# Altium footprint library thermostat.PcbLib: 112 footprints (part 5 of 7)
Each footprint in its own frame and in the unit in brackets; x right, y up, seen from the top. Pads: shape width x height; smd on the part's side, far side on the other; paste and mask are expansions set on the pad; w line width, h text height; cw(c..) or ccw(c..) is an arc to the next point about the centre after c.
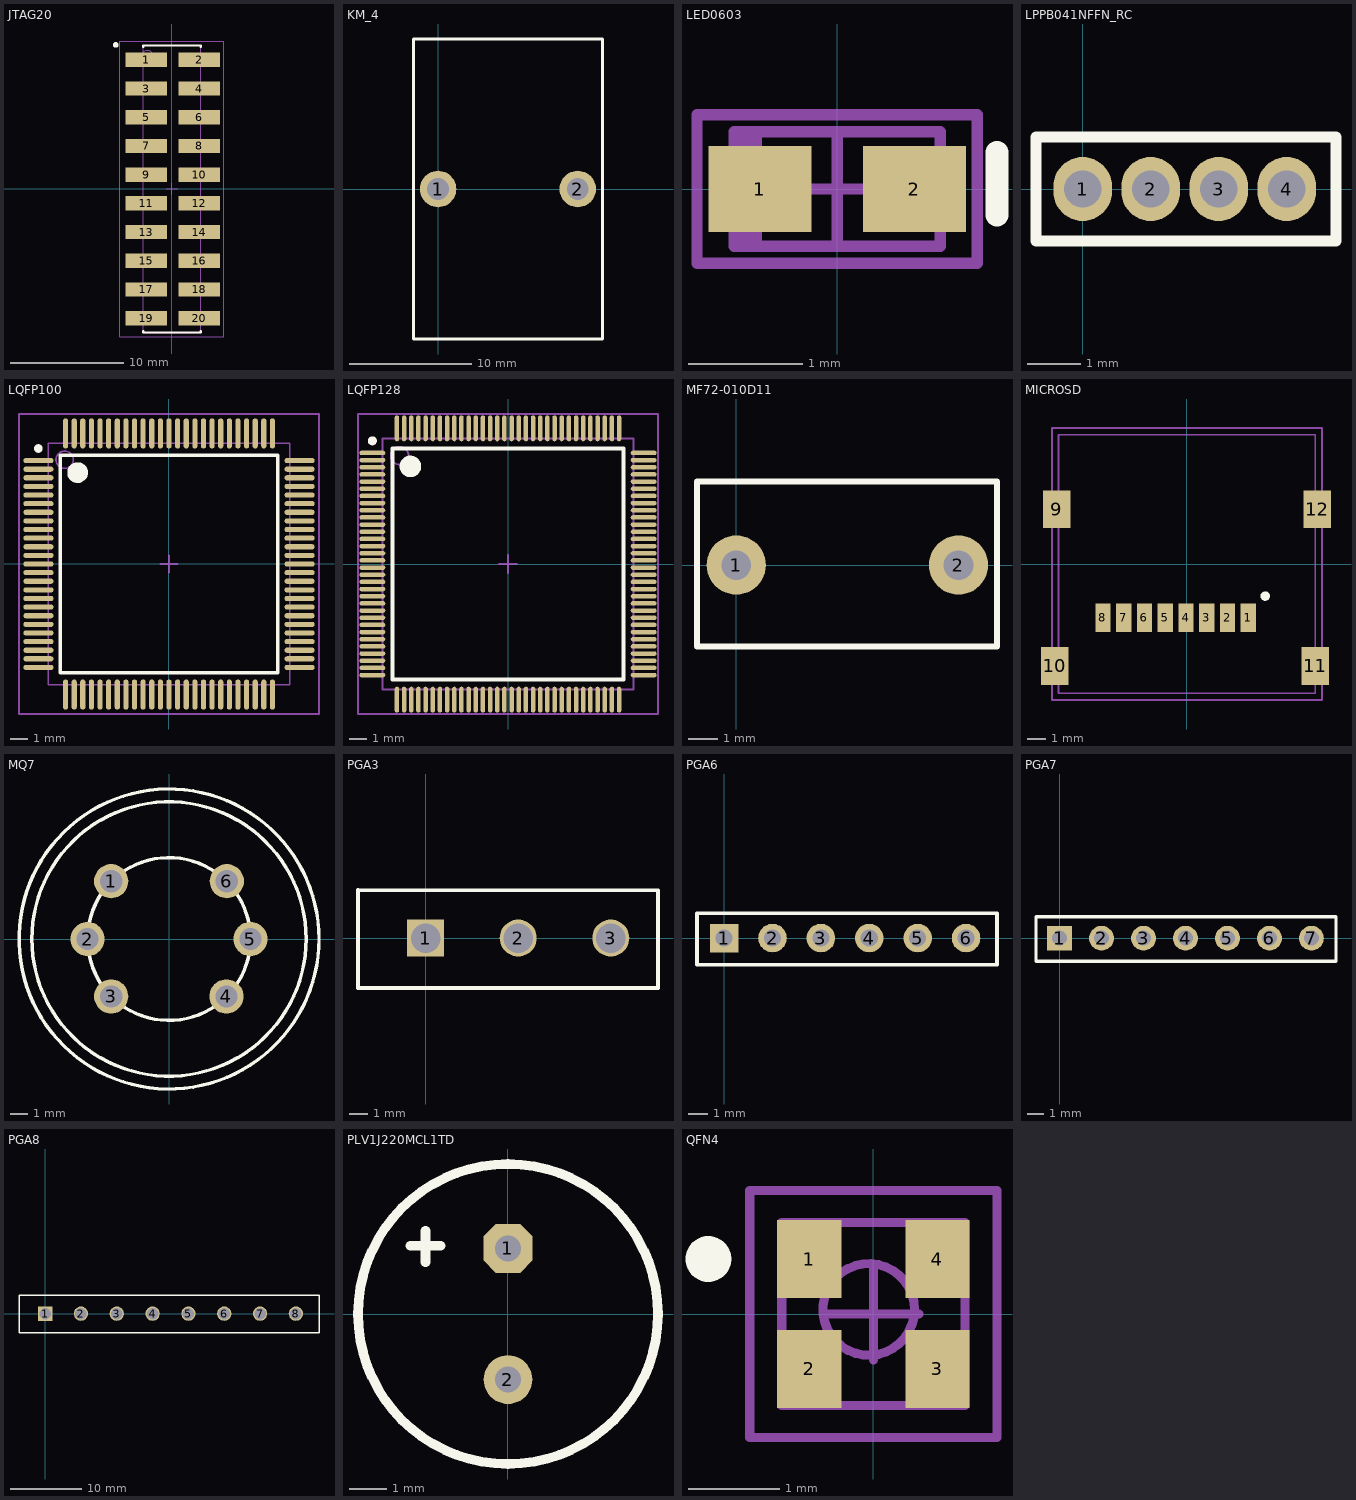
[diagram p4: the footprints below, top view; thin cyan lines are the x and y axes]

## JTAG20 [mm] "JTAG, 20-Leads, Body 25,4x5,1mm (max), Pitch 2,54mm, IPC High Density"
height 10
pads (20):
  rect 3.68x1.27 smd: 1(-2.275,11.43) 2(2.4,11.43) 3(-2.275,8.89) 4(2.4,8.89) 5(-2.275,6.35) 6(2.4,6.35) 7(-2.275,3.81) 8(2.4,3.81) 9(-2.275,1.27) 10(2.4,1.27) 11(-2.275,-1.27) 12(2.4,-1.27) 13(-2.275,-3.81) 14(2.4,-3.81) 15(-2.275,-6.35) 16(2.4,-6.35) 17(-2.275,-8.89) 18(2.4,-8.89) 19(-2.275,-11.43) 20(2.4,-11.43)
Top Overlay:
  circle w0.25: c-4.975,12.75 r0.125
  lines w0.2: -2.55,-12.575 -2.55,-12.7 0.425,-12.7 ; -2.55,12.575 -2.55,12.7 0.425,12.7 ; -0.425,-12.7 2.55,-12.7 2.55,-12.575 ; -0.425,12.7 2.55,12.7 2.55,12.575
Mechanical 13:
  circle w0.1: c-2.19,11.75 r0.5
  lines w0.1: -2.54,-12.7 -2.54,12.7 2.54,12.7 2.54,-12.7 -2.54,-12.7
Mechanical 15:
  lines w0.1: -0.5,0 0.5,0 ; 0,-0.5 0,0.5 ; -4.6,-13.05 -4.6,13.05 4.575,13.05 4.575,-13.05 -4.6,-13.05
3D body: height 7, standoff 0.1, extent -2.54,-12.7 2.54,12.7

## KM_4 [mm] "INDUCTOR PWR TOROID 100UH T/H"
height 28
pads (2):
  round 3 hole 1.8: 1(0,0) 2(11.47,0)
Top Overlay:
  lines w0.254: -2.01,-12.32 13.49,-12.32 13.49,0 13.49,12.32 -2.01,12.32 -2.01,0 -2.01,-12.32
3D body: height 28, standoff 0, extent -2,-12.31 13.46,12.28

## LED0603 [mm] "Molded Diode, 2-Leads, Body 1,7x0,9mm, IPC High Density"
height 0.85
pads (2):
  rect 0.9x0.75 smd: 1(-0.675,0) 2(0.675,0)
Top Overlay:
  lines w0.2: 1.397,-0.229 1.397,0.321
Mechanical 13:
  rectangle: -0.9,-0.5 -0.658,0.5
  lines w0.1: -0.9,-0.5 -0.9,0.5 0.9,0.5 0.9,-0.5 -0.9,-0.5
Mechanical 15:
  lines w0.1: -0.5,0 0.5,0 ; 0,-0.5 0,0.5 ; -1.225,-0.65 -1.225,0.65 1.225,0.65 1.225,-0.65 -1.225,-0.65
3D body: height 0.85, standoff 0, extent -0.9,-0.5 0.9,0.5

## LPPB041NFFN_RC [mm] "CONN HEADER .050\" 4POS PCB GOLD"
height 4.5
pads (4):
  oval 1.1x1.2 hole 0.7: 1(0,0) 2(1.275,0) 3(2.55,0) 4(3.825,0)
Top Overlay:
  lines w0.2: -0.875,-0.975 -0.875,0.975 4.75,0.975 4.75,-0.975 -0.875,-0.975
3D body: height 4.5, standoff 0, extent -0.775,-0.875 4.65,0.875

## LQFP100 [mm] "LQFP100, 100-Leads, Body 16,2x16,2mm (max), Pitch 0,50mm, IPC Medium Density"
height 1.6
pads (100):
  oval 1.75x0.3 smd: 1(-7.575,6) 2(-7.575,5.5) 3(-7.575,5) 4(-7.575,4.5) 5(-7.575,4) 6(-7.575,3.5) 7(-7.575,3) 8(-7.575,2.5) 9(-7.575,2) 10(-7.575,1.5) 11(-7.575,1) 12(-7.575,0.5) 13(-7.575,0) 14(-7.575,-0.5) 15(-7.575,-1) 16(-7.575,-1.5) 17(-7.575,-2) 18(-7.575,-2.5) 19(-7.575,-3) 20(-7.575,-3.5) 21(-7.575,-4) 22(-7.575,-4.5) 23(-7.575,-5) 24(-7.575,-5.5) 25(-7.575,-6) 51(7.575,-6) 52(7.575,-5.5) 53(7.575,-5) 54(7.575,-4.5) 55(7.575,-4) 56(7.575,-3.5) 57(7.575,-3) 58(7.575,-2.5) 59(7.575,-2) 60(7.575,-1.5) 61(7.575,-1) 62(7.575,-0.5) 63(7.575,0) 64(7.575,0.5) 65(7.575,1) 66(7.575,1.5) 67(7.575,2) 68(7.575,2.5) 69(7.575,3) 70(7.575,3.5) 71(7.575,4) 72(7.575,4.5) 73(7.575,5) 74(7.575,5.5) 75(7.575,6)
  oval 0.3x1.75 smd: 26(-6,-7.575) 27(-5.5,-7.575) 28(-5,-7.575) 29(-4.5,-7.575) 30(-4,-7.575) 31(-3.5,-7.575) 32(-3,-7.575) 33(-2.5,-7.575) 34(-2,-7.575) 35(-1.5,-7.575) 36(-1,-7.575) 37(-0.5,-7.575) 38(0,-7.575) 39(0.5,-7.575) 40(1,-7.575) 41(1.5,-7.575) 42(2,-7.575) 43(2.5,-7.575) 44(3,-7.575) 45(3.5,-7.575) 46(4,-7.575) 47(4.5,-7.575) 48(5,-7.575) 49(5.5,-7.575) 50(6,-7.575) 76(6,7.575) 77(5.5,7.575) 78(5,7.575) 79(4.5,7.575) 80(4,7.575) 81(3.5,7.575) 82(3,7.575) 83(2.5,7.575) 84(2,7.575) 85(1.5,7.575) 86(1,7.575) 87(0.5,7.575) 88(0,7.575) 89(-0.5,7.575) 90(-1,7.575) 91(-1.5,7.575) 92(-2,7.575) 93(-2.5,7.575) 94(-3,7.575) 95(-3.5,7.575) 96(-4,7.575) 97(-4.5,7.575) 98(-5,7.575) 99(-5.5,7.575) 100(-6,7.575)
Top Overlay:
  circle w0.25: c-7.575,6.7 r0.125
  circle w0.6: c-5.3,5.3 r0.3
  lines w0.2: -6.3,-6.3 -6.3,6.3 6.3,6.3 6.3,-6.3 -6.3,-6.3
Mechanical 13:
  circle w0.1: c-6.05,6.05 r0.5
  lines w0.1: -7,-7 -7,7 7,7 7,-7 -7,-7
Mechanical 15:
  lines w0.1: -0.5,0 0.5,0 ; 0,-0.5 0,0.5 ; -8.7,-8.7 -8.7,8.7 8.7,8.7 8.7,-8.7 -8.7,-8.7
3D body: height 1.6, standoff 0.25, extent -7,-7 7,7

## LQFP128 [mm] "LQFP 128-Leads, Body 16,0x16,0mm (max), Pitch 0,40mm, IPC High Density"
height 1.6
pads (128):
  oval 1.45x0.25 smd: 1(-7.575,6.2) 2(-7.575,5.8) 3(-7.575,5.4) 4(-7.575,5) 5(-7.575,4.6) 6(-7.575,4.2) 7(-7.575,3.8) 8(-7.575,3.4) 9(-7.575,3) 10(-7.575,2.6) 11(-7.575,2.2) 12(-7.575,1.8) 13(-7.575,1.4) 14(-7.575,1) 15(-7.575,0.6) 16(-7.575,0.2) 17(-7.575,-0.2) 18(-7.575,-0.6) 19(-7.575,-1) 20(-7.575,-1.4) 21(-7.575,-1.8) 22(-7.575,-2.2) 23(-7.575,-2.6) 24(-7.575,-3) 25(-7.575,-3.4) 26(-7.575,-3.8) 27(-7.575,-4.2) 28(-7.575,-4.6) 29(-7.575,-5) 30(-7.575,-5.4) 31(-7.575,-5.8) 32(-7.575,-6.2) 65(7.575,-6.2) 66(7.575,-5.8) 67(7.575,-5.4) 68(7.575,-5) 69(7.575,-4.6) 70(7.575,-4.2) 71(7.575,-3.8) 72(7.575,-3.4) 73(7.575,-3) 74(7.575,-2.6) 75(7.575,-2.2) 76(7.575,-1.8) 77(7.575,-1.4) 78(7.575,-1) 79(7.575,-0.6) 80(7.575,-0.2) 81(7.575,0.2) 82(7.575,0.6) 83(7.575,1) 84(7.575,1.4) 85(7.575,1.8) 86(7.575,2.2) 87(7.575,2.6) 88(7.575,3) 89(7.575,3.4) 90(7.575,3.8) 91(7.575,4.2) 92(7.575,4.6) 93(7.575,5) 94(7.575,5.4) 95(7.575,5.8) 96(7.575,6.2)
  oval 0.25x1.45 smd: 33(-6.2,-7.575) 34(-5.8,-7.575) 35(-5.4,-7.575) 36(-5,-7.575) 37(-4.6,-7.575) 38(-4.2,-7.575) 39(-3.8,-7.575) 40(-3.4,-7.575) 41(-3,-7.575) 42(-2.6,-7.575) 43(-2.2,-7.575) 44(-1.8,-7.575) 45(-1.4,-7.575) 46(-1,-7.575) 47(-0.6,-7.575) 48(-0.2,-7.575) 49(0.2,-7.575) 50(0.6,-7.575) 51(1,-7.575) 52(1.4,-7.575) 53(1.8,-7.575) 54(2.2,-7.575) 55(2.6,-7.575) 56(3,-7.575) 57(3.4,-7.575) 58(3.8,-7.575) 59(4.2,-7.575) 60(4.6,-7.575) 61(5,-7.575) 62(5.4,-7.575) 63(5.8,-7.575) 64(6.2,-7.575) 97(6.2,7.575) 98(5.8,7.575) 99(5.4,7.575) 100(5,7.575) 101(4.6,7.575) 102(4.2,7.575) 103(3.8,7.575) 104(3.4,7.575) 105(3,7.575) 106(2.6,7.575) 107(2.2,7.575) 108(1.8,7.575) 109(1.4,7.575) 110(1,7.575) 111(0.6,7.575) 112(0.2,7.575) 113(-0.2,7.575) 114(-0.6,7.575) 115(-1,7.575) 116(-1.4,7.575) 117(-1.8,7.575) 118(-2.2,7.575) 119(-2.6,7.575) 120(-3,7.575) 121(-3.4,7.575) 122(-3.8,7.575) 123(-4.2,7.575) 124(-4.6,7.575) 125(-5,7.575) 126(-5.4,7.575) 127(-5.8,7.575) 128(-6.2,7.575)
Top Overlay:
  circle w0.25: c-7.575,6.875 r0.125
  circle w0.6: c-5.45,5.45 r0.3
  lines w0.2: -6.45,-6.45 -6.45,6.45 6.45,6.45 6.45,-6.45 -6.45,-6.45
Mechanical 13:
  circle w0.1: c-6.05,6.05 r0.5
  lines w0.1: -7,-7 -7,7 7,7 7,-7 -7,-7
Mechanical 15:
  lines w0.1: -0.5,0 0.5,0 ; 0,-0.5 0,0.5 ; -8.375,-8.375 -8.375,8.375 8.375,8.375 8.375,-8.375 -8.375,-8.375
3D body: height 1.6, standoff 0.05, extent -7,-7 7,7

## MF72-010D11 [mm]
pads (2):
  round 2 hole 1: 1(0,0) 2(7.5,0)
Top Overlay:
  lines w0.2: -1.325,-2.75 -1.325,2.825 8.8,2.825 8.8,-2.75 -1.325,-2.75
3D body: height 14, standoff 0, extent -1.2,-2.625 8.675,2.7

## MICROSD [mm] "MicroSD"
height 1.7
pads (12):
  rect 0.8x1.5 smd: 1(3.25,-2.85) 2(2.15,-2.85) 3(1.05,-2.85) 4(-0.05,-2.85) 5(-1.15,-2.85) 6(-2.25,-2.85) 7(-3.35,-2.85) 8(-4.45,-2.85)
  rect 1.45x2 smd: 9(-6.9,2.9) 10(-7,-5.4) 11(6.8,-5.4) 12(6.9,2.9)
Top Overlay:
  circle w0.25: c4.15,-1.7 r0.125
Mechanical 13:
  lines w0.1: -6.8,-6.85 6.8,-6.85 6.8,6.85 -6.8,6.85 -6.8,-6.85
Mechanical 15:
  lines w0.1: -7.15,-7.2 7.15,-7.2 7.15,7.2 -7.15,7.2 -7.15,-7.2
3D body: height 1.7, standoff 0.1, extent -6.8,-6.85 6.8,6.85

## MQ7 [mm]
height 14
pads (6):
  round 2 hole 1.3: 1(-3.375,3.375) 2(-4.75,0) 3(-3.375,-3.35) 4(3.35,-3.35) 5(4.75,0) 6(3.375,3.375)
Top Overlay:
  circle w0.2: c0,0 r4.75
  circle w0.2: c0,0 r8
  circle w0.2: c0,0 r8.75

## PCBComponent_1 [mm]

## PGA3 [mm]
pads (3):
  rect 2x2 hole 1.6: 1(0,0)
  round 2 hole 1.6: 2(5,0) 3(10,0)
Top Overlay:
  lines w0.2: -3.65,-2.7 12.55,-2.7 12.55,2.575 -3.625,2.575 -3.65,2.6 -3.65,-2.7
3D body: height 7, standoff 0.1, extent -3.2,-2.45 11.85,2.425

## PGA6 [mm]
pads (6):
  rect 1.5x1.5 hole 0.9: 1(0,0)
  round 1.5 hole 0.9: 2(2.54,0) 3(5.08,0) 4(7.62,0) 5(10.16,0) 6(12.7,0)
Top Overlay:
  lines w0.2: -1.425,-1.4 -1.425,1.3 14.325,1.3 14.325,-1.4 -1.425,-1.4
3D body: height 8.64, standoff 0.1, extent -1.275,-1.275 14.175,1.225

## PGA7 [mm]
pads (7):
  rect 1.5x1.5 hole 0.9: 1(0,0)
  round 1.5 hole 0.9: 2(2.54,0) 3(5.08,0) 4(7.62,0) 5(10.16,0) 6(12.7,0) 7(15.24,0)
Top Overlay:
  lines w0.2: -1.425,-1.4 16.725,-1.4 16.725,1.3 -1.425,1.3 -1.425,-1.4
3D body: height 8.64, standoff 0.1, extent -1.325,-1.3 16.625,1.2

## PGA8 [mm]
pads (8):
  rect 2x2 hole 1.6: 1(0,0)
  round 2 hole 1.6: 2(5,0) 3(10,0) 4(15,0) 5(20,0) 6(25,0) 7(30,0) 8(35,0)
Top Overlay:
  lines w0.2: -3.65,-2.7 -3.65,2.6 -3.625,2.575 38.225,2.575 38.225,-2.7 -3.65,-2.7
3D body: height 9.5, standoff 0.1, extent -3.2,-1.75 36.775,1.75

## PLV1J220MCL1TD [mm] "CAP ALUM 22UF 63V 20% RADIAL"
height 9
pads (2):
  oct 1.3x1.3 hole 0.7: 1(0,1.75)
  round 1.3 hole 0.7: 2(0,-1.75)
Top Overlay:
  circle w0.254: c0,0 r4
  lines w0.254: -2.6,1.825 -1.8,1.825 ; -2.2,1.375 -2.2,2.225
3D body: height 9, standoff 0, extent -3.943,-4.017 4.025,3.967

## QFN4 [mm] "QFN, 4-Leads, Body 2,0x2,0mm (max), Pitch 1,20mm, IPC High Density"
height 0.7
pads (4):
  rect 0.7x0.85 smd: 1(-0.7,0.6) 2(-0.7,-0.6) 3(0.7,-0.6) 4(0.7,0.6)
Top Overlay:
  circle w0.25: c-1.8,0.6 r0.125
Mechanical 13:
  circle w0.1: c-0.05,0.05 r0.5
  lines w0.1: -1,-1 -1,1 1,1 1,-1 -1,-1
Mechanical 15:
  lines w0.1: -0.5,0 0.5,0 ; 0,-0.5 0,0.5 ; -1.35,-1.35 -1.35,1.35 1.35,1.35 1.35,-1.35 -1.35,-1.35
3D body: height 0.7, standoff 0.1, extent -1,-1 1,1